# EAGLE library part LT1945 (library LT1945)
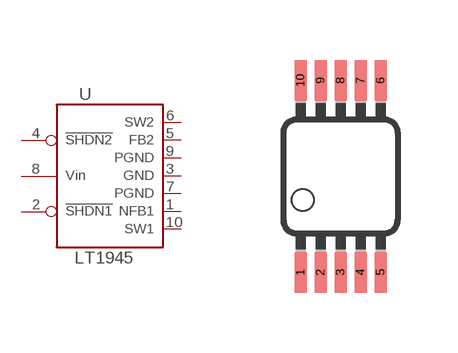
[diagram p0: symbol with the pads of MSOP10; footprint MSOP10]

Designator prefix -

## LT1945  [MSOP10]
1  NFB1  in
2  !SHDN1  in
3  GND  pwr
4  !SHDN2  in
5  FB2  in
6  SW2  out
7  PGND  pwr
8  VIN  pwr
9  PGND  pwr
10  SW1  out

## Footprint MSOP10 (pad centres in mm)
10 Lead MSOP Package NS Package Number MUB10A Source: http://cache.national.com/ds/LM/LM5030.pdf
smd 0.3 x 1.02: 1 -1,-2.4; 2 -0.5,-2.4; 3 0,-2.4; 4 0.5,-2.4; 5 1,-2.4; 6 1,2.4; 7 0.5,2.4; 8 0,2.4; 9 -0.5,2.4; 10 -1,2.4